# Altium schematic symbol library surfaceMount.SchLib: 23 symbols
Pins are listed as number, name and electrical type; pins without a type are passive.

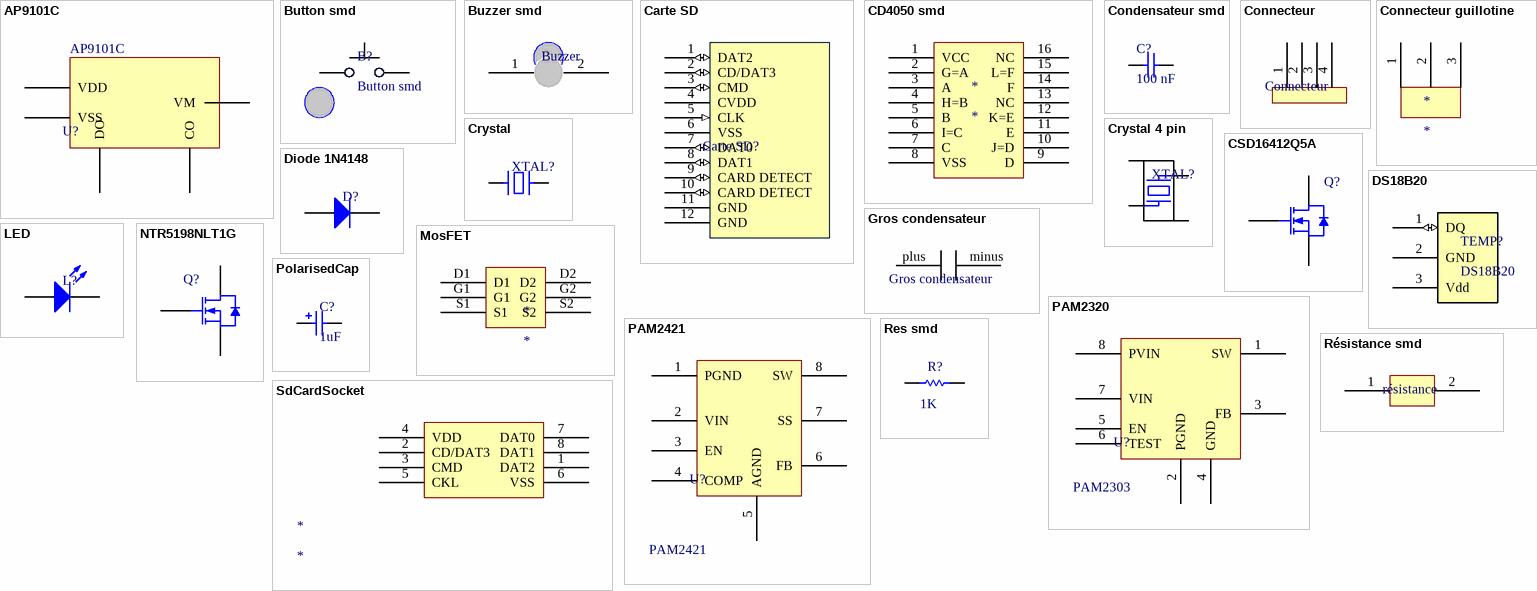
[diagram p0: symbols AP9101C to SdCardSocket]

## AP9101C
designator U?
NAME: AP9101C
footprint SOT25
footprint SOT26; pin to pad CO>3 DO>1 VDD>5 VM>2 VSS>6
pins: CO, DO, VDD, VM, VSS

## Button smd
designator B?
footprint Button smd
pins: 1, 2

## Buzzer smd
designator Buzzer  (value not drawn)
footprint Buzzer
pins: 1, 2

## Carte SD
designator Carte SD?, comment Carte micro SD  (value not drawn)
footprint Carte SD
pins: 1 DAT2 (io), 2 CD/DAT3 (io), 3 CMD (io), 4 CVDD (power), 5 CLK (in), 6 VSS (power), 7 DAT0 (io), 8 DAT1 (io), 9 CARD DETECT (io), 10 CARD DETECT (io), 11 GND (power), 12 GND (power)

## CD4050 smd
designator *
footprint SOIC16
pins: 1 VCC, 2 G=A, 3 A, 4 H=B, 5 B, 6 I=C, 7 C, 8 VSS, 9 D, 10 J=D, 11 E, 12 K=E, 13 NC, 14 F, 15 L=F, 16 NC

## Condensateur smd
designator C?, comment 100 nF
Value: 5 pF
footprint CAP 0805 - N
footprint Cap 0805 - S
pins: 1, 2

## Connecteur
designator Connecteur  (value not drawn)
footprint CONNECTEUR
pins: 1, 2, 3, 4

## Connecteur guillotine
designator *
footprint Connecteur guillotine
pins: 1 10, 2 11, 3 12

## Crystal
designator XTAL?, comment Crystal oscillator 2 pin  (value not drawn)
Value: 16 MHz
footprint CSM-3X (Crystal 2 pins)
pins: 1, 2

## Crystal 4 pin
designator XTAL?  (value not drawn)
Crystal oscillator 4 pin; Value: 16 MHz
footprint FA-238 (Crystal Oscillator 4 SMD)
pins: 1, 2, 3, 4

## CSD16412Q5A
designator Q?, comment Mosfet 14A smd  (value not drawn)
Mosfet 14A
footprint SON127P630X110-8N (SON, 8-Leads, Body 4,51x6,25mm, Pitch 1,27mm, IPC Medium Density)
pins: D, G, S

## Diode 1N4148
designator D?, comment Diode 1N4148 SMD  (value not drawn)
Diode 1N4148
footprint SOD-80
pins: 1, 2

## DS18B20
designator TEMP?
footprint uMAX - DS18B20
footprint SOP8 - DS18B20
pins: 1 DQ (io), 2 GND (power), 3 Vdd (power)

## Gros condensateur
designator *
footprint Gros condensateur
pins: minus, plus

## LED
designator L?, comment LED 1206  (value not drawn)
Color: Green
footprint LED - 1206
pins: 1, 2

## MosFET
designator *
footprint MosFET (DMN2215UDMDICT-ND)
pins: D1, D2, G1, G2, S1, S2

## NTR5198NLT1G
designator Q?
Power MOSFET, 60 V, 155 mOhm, Single N-Channel Logic Level, 3-Pin SOT-23, Pb-Free, Tape and Reel; Manufacturer: On Semiconductor; PartNumber: NTR5198NLT1G; Channel Polarity: N Channel; Ciss Typ (pF): 182; Coss Typ (pF): 25; Crss Typ (pF): 16; ID Max (A): 2.2; Qrr Typ (nC): 6; V(BR)DSS Min (V): 60; VGS Max (V): 20; VGS(th) Max (V): 2.5; DatasheetVersion: Rev. 0; PackageVersion: Rev. AP, 11/2009; PackageReference: SOT-23-3-318-08; PackageDescription: 3-Pin Small Outline Transistor, Body 2.92 x 1.3 mm, Pitch 0.95 mm; Supplier 1: Digi-Key; Supplier Part Number 1: NTR5198NLT1GOSTR-ND; Supplier 2: Digi-Key; Supplier Part Number 2: NTR5198NLT1GOSCT-ND; Supplier 3: Digi-Key; Supplier Part Number 3: NTR5198NLT1GOSDKR-ND; Supplier 4: Newark; Supplier Part Number 4: 11X3689; Supplier 5: Mouser; Supplier Part Number 5: 863-NTR5198NLT1G; Configuration: Single; Package Type: SOT-23-3; Packing: Tape and Reel; RoHS: Pb-Free; Mounting Technology: Surface Mount; ComponentLink1Description: Manufacturer URL; ComponentLink1URL: http://www.onsemi.com/; ComponentLink2Description: Datasheet; ComponentLink2URL: http://www.onsemi.com/pub_link/Collateral/NTR5198NL-D.PDF; ComponentLink3Description: Package Specification; ComponentLink3URL: http://www.onsemi.cn/pub_link/Collateral/318-08.PDF
footprint SOT-23-3-318-08_V (SOT23, 3-Leads, Body 2.92x1.3mm, Pitch 0.95mm)
pins: 1 G, 2 S, 3 D

## PAM2320
designator U?  Name: PAM2303  (hidden comment: PAM2320)
3A LOW NOISE STEP-DOWN DC-DC CONVERTER
footprint SOP8
pins: 1 SW, 2 PGND, 3 FB, 4 GND, 5 EN, 6 TEST, 7 VIN, 8 PVIN

## PAM2421
designator U?
3A PWM STEP-UP DC-DC CONVERTER
footprint SOP8
pins: 1 PGND, 2 VIN, 3 EN, 4 COMP, 5 AGND, 6 FB, 7 SS, 8 SW

## PolarisedCap
designator C?, comment 1uF
footprint PolarisedCap4X5.5
pins: 1, 2

## Res smd
designator R?  value 1K  (hidden comment: Res smd)
footprint Res 0805 - N
pins: 1, 2

## Résistance smd
designator résistance  (value not drawn)
footprint Résistance R1206
pins: 1 0, 2 1

## SdCardSocket
designator *
footprint SdCardSocket
pins: 1 DAT2, 2 CD/DAT3, 3 CMD, 4 VDD, 5 CKL, 6 VSS, 7 DAT0, 8 DAT1